# EAGLE library part DRV8876RGTR (library DRV8876RGTR)
Motor / Motion / Ignition Controllers & Drivers 37-V, 3.5-A brushed DC motor driver with integrated current sensing and current sense output 16-VQFN -40 to 125 Source: Datasheet <http://www.ti.com/lit/gpn/drv8876>
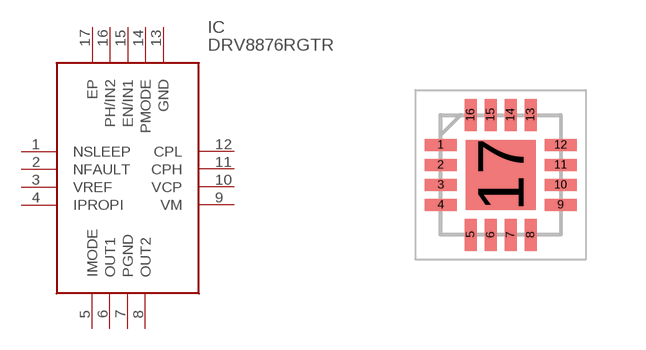
[diagram p0: symbol with the pads of QFN50P300X300X100-17N; footprint QFN50P300X300X100-17N]

Designator prefix IC

## DRV8876RGTR (Description: Motor / Motion / Ignition Controllers & Drivers 37-V, 3.5-A brushed DC motor driver with integrated current sensing and current sense output 16-VQFN -40 to 125; Height: 1mm; Manufacturer_Name: Texas Instruments; Manufacturer_Part_Number: DRV8876RGTR; Mouser_Part_Number: 595-DRV8876RGTR; Mouser_Price-Stock: https://www.mouser.co.uk/ProductDetail/Texas-Instruments/DRV8876RGTR?qs=T3oQrply3y%2F6lJwB3MIeHA%3D%3D)  [QFN50P300X300X100-17N]
1  NSLEEP
2  NFAULT
3  VREF
4  IPROPI
5  IMODE
6  OUT1
7  PGND
8  OUT2
9  VM
10  VCP
11  CPH
12  CPL
13  GND
14  PMODE
15  EN/IN1
16  PH/IN2
17  EP

## Footprint QFN50P300X300X100-17N (pad centres in mm)
RGT001
smd 0.8 x 0.3: 1 -1.5,0.75; 2 -1.5,0.25; 3 -1.5,-0.25; 4 -1.5,-0.75; 9 1.5,-0.75; 10 1.5,-0.25; 11 1.5,0.25; 12 1.5,0.75
smd 0.3 x 0.8: 5 -0.75,-1.5; 6 -0.25,-1.5; 7 0.25,-1.5; 8 0.75,-1.5; 13 0.75,1.5; 14 0.25,1.5; 15 -0.25,1.5; 16 -0.75,1.5
smd 1.75 x 1.75: 17 0,0